# EAGLE library part ENCODER_QUADRATE_WITH_BUTTON (library timelapse-prototype-parts)
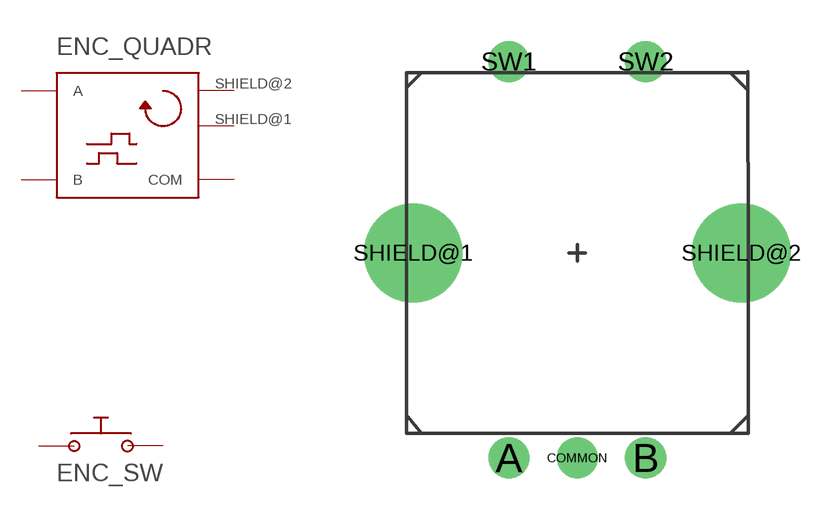
[diagram p10: symbol with the pads of ENCODER_PEC11-4XXXF-SXXXX; footprint ENCODER_PEC11-4XXXF-SXXXX]

Designator prefix ENC; gates _QUADR=ENCODER_QUADRATE _SW=SW_NO_2PIN

## ENCODER_QUADRATE_WITH_BUTTON  [ENCODER_PEC11-4XXXF-SXXXX]
A  _QUADR:A
B  _QUADR:B
COMMON  _QUADR:COM
SHIELD@1  _QUADR:SHIELD
SHIELD@2  _QUADR:SHIELD
SW1  _SW:P$1
SW2  _SW:P$2

## Footprint ENCODER_PEC11-4XXXF-SXXXX (pad centres in mm)
drill 1 round: A -2.5,-7.5; B 2.5,-7.5; COMMON 0,-7.5; SW1 -2.5,7; SW2 2.5,7
drill 2.6 round: SHIELD@1 -6,0; SHIELD@2 6,0